# Altium footprint library PcbLib2.PcbLib: 32 footprints (part 1 of 2)
Each footprint in its own frame and in the unit in brackets; x right, y up, seen from the top. Pads: shape width x height; smd on the part's side, far side on the other; paste and mask are expansions set on the pad; w line width, h text height; cw(c..) or ccw(c..) is an arc to the next point about the centre after c.
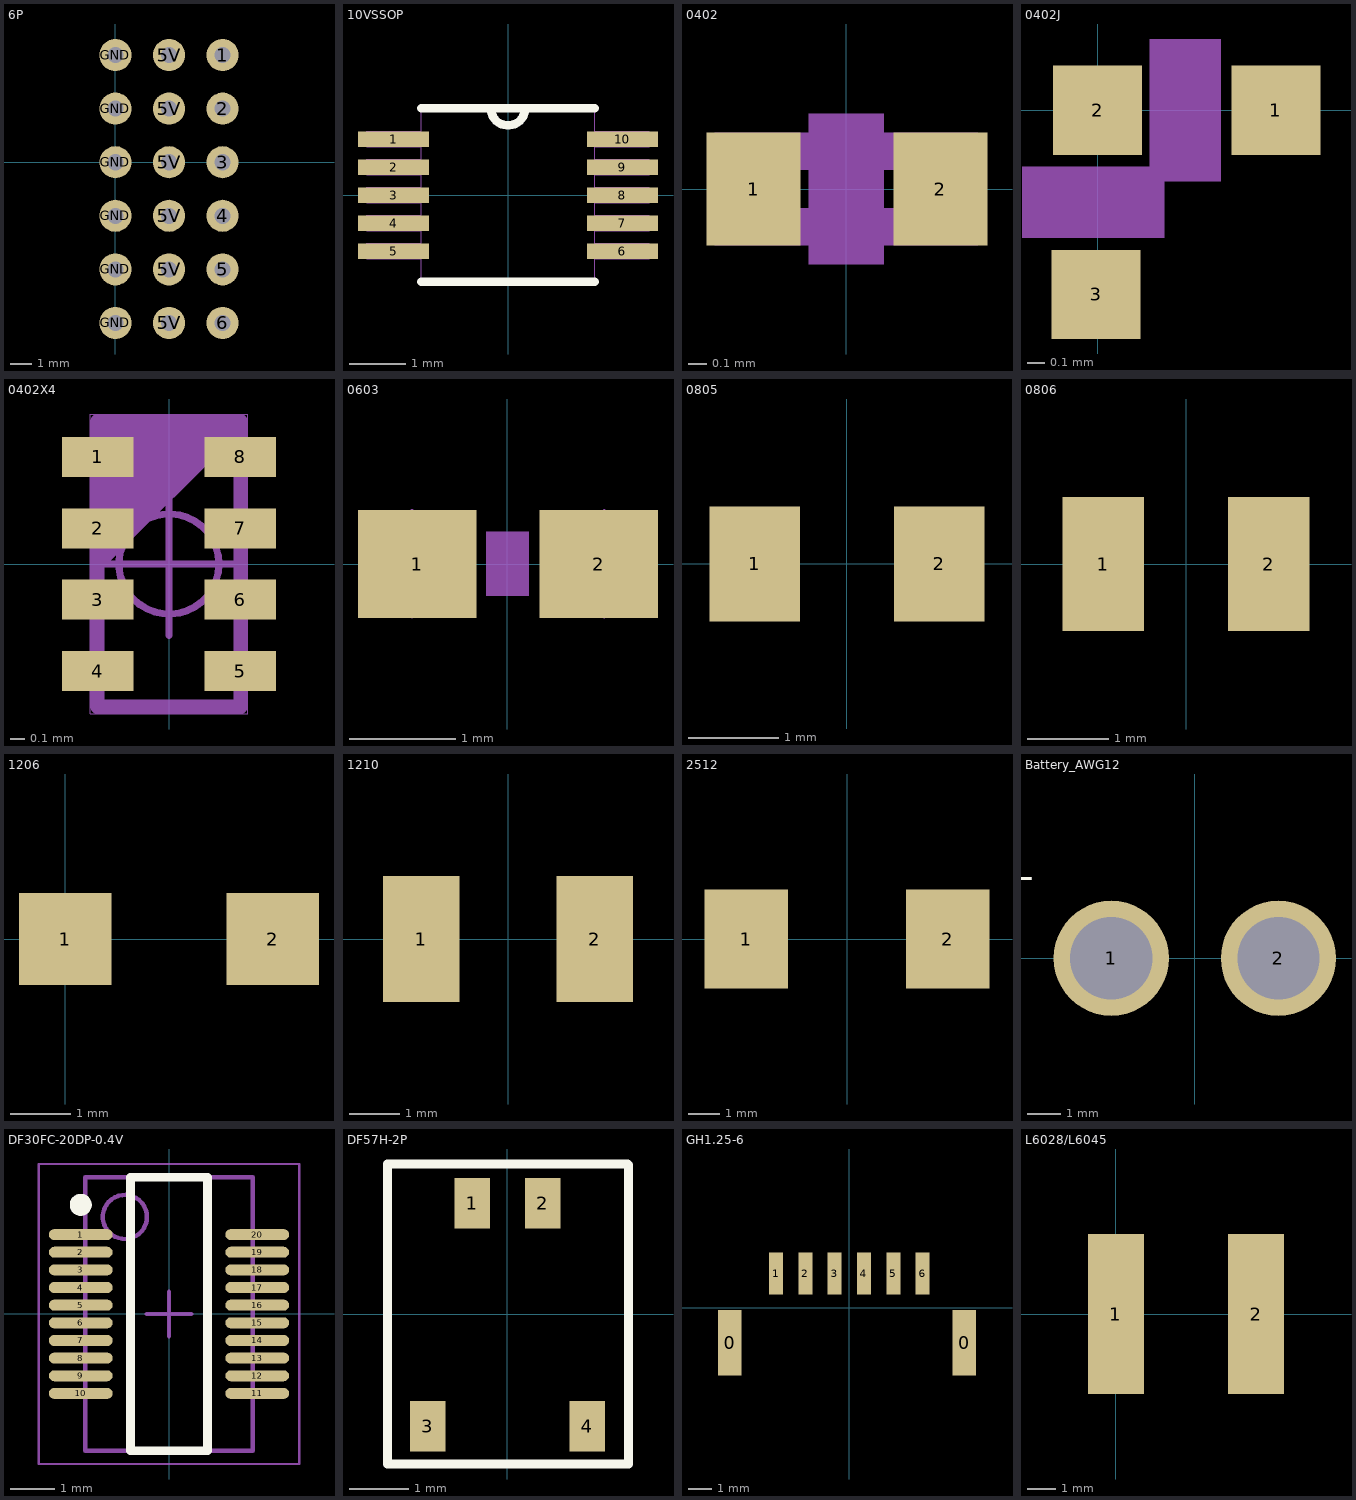
[diagram p0: the footprints below, top view; thin cyan lines are the x and y axes]

## 6P [mil]
pads (18):
  round 60 hole 30: 1(200,200) 2(200,100) 3(200,0) 4(200,-100) 5(200,-200) 5V(100,-300) 5V(100,-200) 5V(100,-100) 5V(100,0) 5V(100,100) 5V(100,200) 6(200,-300) GND(0,-300) GND(0,-200) GND(0,-100) GND(0,0) GND(0,100) GND(0,200)

## 10VSSOP [mil]
pads (10):
  rect 50x11 smd: 1(-80.5,39.37) 2(-80.5,19.68) 3(-80.5,0) 4(-80.5,-19.68) 5(-80.5,-39.37) 6(80.5,-39.37) 7(80.5,-19.68) 8(80.5,0) 9(80.5,19.68) 10(80.5,39.37)
Top Overlay:
  lines w6: -61,-61 61,-61 ; -61,61 61,61 ; -12,61 ccw(c0,61) 12,61
Mechanical 1:
  lines w0: -12,61 ccw(c0,61) 12,61 ; -99.5,-44.87 -61,-44.87 -61,-33.87 -99.5,-33.87 -99.5,-44.87 ; -99.5,-25.18 -61,-25.18 -61,-14.19 -99.5,-14.19 -99.5,-25.18 ; -99.5,-5.5 -61,-5.5 -61,5.5 -99.5,5.5 -99.5,-5.5 ; -99.5,14.19 -61,14.19 -61,25.18 -99.5,25.18 -99.5,14.19 ; -99.5,33.87 -61,33.87 -61,44.87 -99.5,44.87 -99.5,33.87 ; -61,-61 -61,61 61,61 61,-61 -61,-61 ; 61,-44.87 99.5,-44.87 99.5,-33.87 61,-33.87 61,-44.87 ; 61,-25.18 99.5,-25.18 99.5,-14.19 61,-14.19 61,-25.18 ; 61,-5.5 99.5,-5.5 99.5,5.5 61,5.5 61,-5.5 ; 61,14.19 99.5,14.19 99.5,25.18 61,25.18 61,14.19 ; 61,33.87 99.5,33.87 99.5,44.87 61,44.87 61,33.87

## 0402 [mil] "0402-RES"
pads (2):
  rect 20x24 smd: 1(-19.68,0) 2(20,0)
Mechanical 6:
  rectangle: -8,-16 8,16
Mechanical 16:
  rectangle: -28,-12 -16,12
  rectangle: 16,-12 28,12
  lines w8: -20,-8 20,-8 ; -20,8 20,8

## 0402J [mil] "0402-RES"
pads (3):
  rect 20x20 smd: 1(40,0) 2(0,0) 3(-0.35,-41.34)
Mechanical 6:
  region: 15.02,-28.67 15.02,-12.67 -16.98,-12.67 -16.98,-28.67
  rectangle: 11.69,-16 27.68,16

## 0402X4 [mm]
pads (8):
  rect 0.5x0.28 smd: 1(-0.5,0.75) 2(-0.5,0.25) 3(-0.5,-0.25) 4(-0.5,-0.75) 5(0.5,-0.75) 6(0.5,-0.25) 7(0.5,0.25) 8(0.5,0.75)
Mechanical 1:
  lines w0.1: 0.5,1 0.5,-1 -0.5,-1 -0.5,1 0.5,1 ; 0.5,1 -0.5,0 0.5,1 ; -0.5,0.1 0.4,1 -0.5,0.1 ; -0.5,0.2 0.3,1 -0.5,0.2 ; -0.5,0.3 0.2,1 -0.5,0.3 ; -0.5,0.4 0.1,1 -0.5,0.4 ; -0.5,0.5 0,1 -0.5,0.5 ; -0.5,0.6 -0.1,1 -0.5,0.6 ; -0.5,0.7 -0.2,1 -0.5,0.7 ; -0.5,0.8 -0.3,1 -0.5,0.8 ; -0.5,0.9 -0.4,1 -0.5,0.9
  text "R1" at 0.18,-0.199 h0.3
Mechanical 16:
  circle w0.05: c0,0 r0.35
  lines w0.001: -0.55,-1.05 0.55,-1.05 0.55,1.05 -0.55,1.05 -0.55,-1.05
  lines w0.05: -0.5,0 0.5,0 ; 0,-0.5 0,0.5

## 0603 [mil] "0603-RES"
pads (2):
  rect 44x40 smd: 1(-33.46,0) 2(34,0)
Mechanical 6:
  rectangle: -7.87,-11.81 8,12
Mechanical 16:
  rectangle: -32.98,-18.5 -13.29,19
  rectangle: 13,-18.5 33,19
  lines w1: -35.43,-19.68 -35.43,20 ; 36,-19.68 36,20

## 0805 [mm]
pads (2):
  rect 1x1.27 smd: 1(-1.016,0) 2(1.016,0)
3D body: height 0.8, standoff 0, extent -1.27,-0.762 1.27,0.762

## 0806 [mm]
pads (2):
  rect 1x1.65 smd: 1(-1.016,0) 2(1.016,0)
3D body: height 0.5, standoff 0, extent -1,-0.8 1,0.8

## 1206 [mil]
pads (2):
  rect 60x60 smd: 1(0,0) 2(135,0)

## 1210 [mm]
pads (2):
  rect 1.52x2.5 smd: 1(-1.715,0) 2(1.715,0)

## 2512 [mm]
pads (2):
  rect 2.7x3.2 smd: 1(-3.25,0) 2(3.25,0)

## Battery_AWG12 [mm]
pads (2):
  round 3.5 hole 2.5: 1(-2.54,0) 2(2.54,0)
Top Overlay:
  text "+" at -4.826,2.032 h0.89

## DF30FC-20DP-0.4V [mm] "TSSOP, 20-Leads, Body 6.22x3.76mm, Pitch 0.40mm, IPC Medium Density"
height 0.9
pads (20):
  oval 1.45x0.25 smd: 1(-2,1.8) 2(-2,1.4) 3(-2,1) 4(-2,0.6) 5(-2,0.2) 6(-2,-0.2) 7(-2,-0.6) 8(-2,-1) 9(-2,-1.4) 10(-2,-1.8) 11(2,-1.8) 12(2,-1.4) 13(2,-1) 14(2,-0.6) 15(2,-0.2) 16(2,0.2) 17(2,0.6) 18(2,1) 19(2,1.4) 20(2,1.8)
Top Overlay:
  circle w0.25: c-2,2.475 r0.125
  lines w0.2: -0.875,-3.1 -0.875,3.1 0.875,3.1 0.875,-3.1 -0.875,-3.1
Mechanical 13:
  circle w0.1: c-1,2.2 r0.5
  lines w0.1: -1.9,-3.1 -1.9,3.1 1.9,3.1 1.9,-3.1 -1.9,-3.1
Mechanical 15:
  lines w0.05: -2.95,-3.4 -2.95,3.4 2.95,3.4 2.95,-3.4 -2.95,-3.4
  lines w0.1: -0.5,0 0.5,0 ; 0,-0.5 0,0.5
3D body: height 0.9, standoff 0.08, extent -1.9,-3.1 1.9,3.1

## DF57H-2P [mm]
pads (4):
  rect 0.6x0.85 smd: 1(-0.6,1.875) 2(0.6,1.875) 3(-1.35,-1.9) 4(1.35,-1.9)
Top Overlay:
  lines w0.152: 2.05,-2.54 -2.032,-2.54 -2.032,2.54 2.032,2.54 2.05,2.522 ; 2.05,-2.286 2.05,2.3
  lines w0.154: 2.05,-2.54 2.05,-2.046 ; 2.05,2.046 2.05,2.522

## GH1.25-6 [mm]
pads (8):
  rect 1x2.8 smd: 0(-5.1,-1.5) 0(4.9,-1.5)
  rect 0.6x1.8 smd: 1(-3.125,1.45) 2(-1.875,1.45) 3(-0.625,1.45) 4(0.625,1.45) 5(1.875,1.45) 6(3.125,1.45)
3D body "SM06B-GHS-TB.STEP": height 4.25, standoff -0.1, extent -5.475,-3.1 5.275,1.75

## L6028/L6045 [mm]
pads (2):
  rect 2x5.7 smd: 1(0,0) 2(5,0)